# Altium footprint library RCH875NP2R2M.PcbLib: 1 footprints
Each footprint in its own frame and in the unit in brackets; x right, y up, seen from the top. Pads: shape width x height; smd on the part's side, far side on the other; paste and mask are expansions set on the pad; w line width, h text height; cw(c..) or ccw(c..) is an arc to the next point about the centre after c.
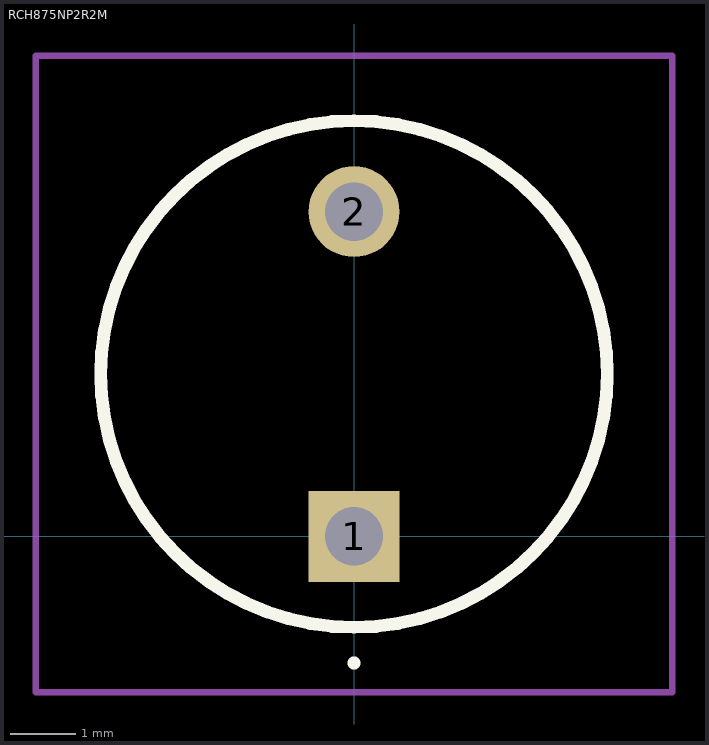
[diagram p0: the footprint, top view; thin cyan lines are the x and y axes]

## RCH875NP2R2M [mm]
pads (2):
  rect 1.4x1.4 hole 0.9: 1(0,0)
  round 1.4 hole 0.9: 2(0,5)
Top Overlay:
  lines w0.1: 0,-2 0,-2 ; 0,-2 ccw(c0,-1.95) 0,-1.9 ; 0,-2 cw(c0,-1.95) 0,-1.9 ; 0,-1.9 0,-1.9
  lines w0.2: -3.9,2.5 -3.9,2.5 ; -3.9,2.5 ccw(c0,2.5) 3.9,2.5 ; -3.9,2.5 cw(c0,2.5) 3.9,2.5 ; 3.9,2.5 3.9,2.5
Mechanical 15:
  lines w0.1: -3.9,2.5 -3.9,2.5 ; -3.9,2.5 ccw(c0,2.5) 3.9,2.5 ; -3.9,2.5 cw(c0,2.5) 3.9,2.5 ; 3.9,2.5 3.9,2.5
Mechanical 20:
  lines w0.1: -4.9,-2.4 4.9,-2.4 4.9,7.4 -4.9,7.4 -4.9,-2.4